# EAGLE library part WE-PPTI_1408 (library WE-PPTI)
WE-PPTI Push-Pull Transformers Characteristics Small size Surface mount Low profile Operating temp: -40°C to 125°C Functional or Reinforced Insulation Applications Isolated interface power supply for CAN, RS-485, RS-422, RS-232, SPI, I2C, lower-power LAN Industrial automation Process control Medical equipment PLC analog and digital I/O modules Isolated gate driver power supplies AC motor drives Uninterruptible power supplies (UPS) Solar inverters Polyphase energy meters Protection relays and IEDs <https://www.we-online.com/components/media/o715993v209%20Family-PPTI.jpg> Details see: www.we-online.com/en/components/products/WE-PPTI <www.we-online.com/catalog/WE-PPTI/?utm_source=eagle_model&utm_medium=description_link&utm_campaign=eisos_eagle> Created by Ella Wu 2023-02-20 2023 (C) Wurth Elektronik
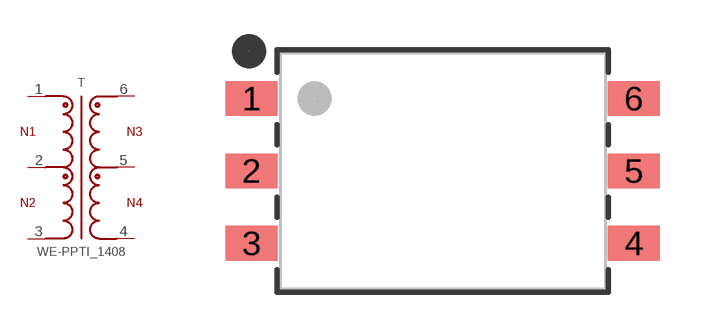
[diagram p2: symbol with the pads of WE-PPTI_1408_L14.75W8.3H4.2; footprint WE-PPTI_1408_L14.75W8.3H4.2]

Designator prefix T

## WE-PPTI_1408_750316853_L14.75W8.3H4.2 (DATASHEET-URL: https://www.we-online.com/redexpert/spec/750316853?ae; FSWITCH: 200 - 600kHz; HEIGHT: 4.2mm; IOUT1: 165mA; L: 200uH; LENGTH: 14.75mm; MOUNT: SMT; N: 1:4; PART-NUMBER: 750316853; SIZE: 1408; TYPE-OF-INSULATION: Supplementary; VALUE: 750316853; VIN: 3.3 V (DC); VOLTAGE-TIME: 15Vus; VOUT1: 12V; VT: 2500 V(AC); WIDTH: 8.3mm), WE-PPTI_1408_750316854_L14.75W8.3H4.2 (DATASHEET-URL: https://www.we-online.com/redexpert/spec/750316854?ae; FSWITCH: 200 - 600kHz; HEIGHT: 4.2mm; IOUT1: 380mA; L: 200uH; LENGTH: 14.75mm; MOUNT: SMT; N: 1:2.5; PART-NUMBER: 750316854; SIZE: 1408; TYPE-OF-INSULATION: Supplementary; VALUE: 750316854; VIN: 5 V (DC); VOLTAGE-TIME: 15Vus; VOUT1: 12V; VT: 2500 V(AC); WIDTH: 8.3mm), WE-PPTI_1408_750316855_L14.75W8.3H4.2 (DATASHEET-URL: https://www.we-online.com/redexpert/spec/750316855?ae; FSWITCH: 200 - 600kHz; HEIGHT: 4.2mm; IOUT1: 85mA; L: 200uH; LENGTH: 14.75mm; MOUNT: SMT; N: 1:7; PART-NUMBER: 750316855; SIZE: 1408; TYPE-OF-INSULATION: Supplementary; VALUE: 750316855; VIN: 3.3 V (DC); VOLTAGE-TIME: 15Vus; VOUT1: 23V; VT: 2500 V(AC); WIDTH: 8.3mm), WE-PPTI_1408_750316856_L14.75W8.3H4.2 (DATASHEET-URL: https://www.we-online.com/redexpert/spec/750316856?ae; FSWITCH: 200 - 600kHz; HEIGHT: 4.2mm; IOUT1: 180mA; L: 200uH; LENGTH: 14.75mm; MOUNT: SMT; N: 1:4.67; PART-NUMBER: 750316856; SIZE: 1408; TYPE-OF-INSULATION: Supplementary; VALUE: 750316856; VIN: 5 V (DC); VOLTAGE-TIME: 15Vus; VOUT1: 23V; VT: 2500 V(AC); WIDTH: 8.3mm), WE-PPTI_1408_750316886_L14.75W8.3H4.2 (DATASHEET-URL: https://www.we-online.com/redexpert/spec/750316886?ae; FSWITCH: 200 - 400kHz; HEIGHT: 4.2mm; IOUT1: 950mA; L: 200uH; LENGTH: 14.75mm; MOUNT: SMT; N: 1:1.17; PART-NUMBER: 750316886; SIZE: 1408; TYPE-OF-INSULATION: Supplementary; VALUE: 750316886; VIN: 5 V (DC); VOLTAGE-TIME: 15Vus; VOUT1: 5V; VT: 2500 V(AC); WIDTH: 8.3mm), WE-PPTI_1408_750316887_L14.75W8.3H4.2 (DATASHEET-URL: https://www.we-online.com/redexpert/spec/750316887?ae; FSWITCH: 200 - 600kHz; HEIGHT: 4.2mm; IOUT1: 700mA; L: 200uH; LENGTH: 14.75mm; MOUNT: SMT; N: 1:1.67; PART-NUMBER: 750316887; SIZE: 1408; TYPE-OF-INSULATION: Supplementary; VALUE: 750316887; VIN: 3.3 V (DC); VOLTAGE-TIME: 15Vus; VOUT1: 5V; VT: 2500 V(AC); WIDTH: 8.3mm), WE-PPTI_1408_750316888_L14.75W8.3H4.2 (DATASHEET-URL: https://www.we-online.com/redexpert/spec/750316888?ae; FSWITCH: 200 - 600kHz; HEIGHT: 4.2mm; IOUT1: 1100mA; L: 200uH; LENGTH: 14.75mm; MOUNT: SMT; N: 1.2:1; PART-NUMBER: 750316888; SIZE: 1408; TYPE-OF-INSULATION: Supplementary; VALUE: 750316888; VIN: 5 V (DC); VOLTAGE-TIME: 15Vus; VOUT1: 3.3V; VT: 2500 V(AC); WIDTH: 8.3mm), WE-PPTI_1408_750317072_L14.75W8.3H4.2 (DATASHEET-URL: https://www.we-online.com/redexpert/spec/750317072?ae; FSWITCH: 200 - 600kHz; HEIGHT: 4.2mm; IOUT1: 125mA; L: 200uH; LENGTH: 14.75mm; MOUNT: SMT; N: 1:6.17; PART-NUMBER: 750317072; SIZE: 1408; TYPE-OF-INSULATION: Supplementary; VALUE: 750317072; VIN: 3.3 V (DC); VOLTAGE-TIME: 15Vus; VOUT1: 20V; VT: 2500 V(AC); WIDTH: 8.3mm)  [WE-PPTI_1408_L14.75W8.3H4.2]
1  1  pas
2  2  pas
3  3  pas
4  4  pas
5  5  pas
6  6  pas

## Footprint WE-PPTI_1408_L14.75W8.3H4.2 (pad centres in mm)
WE-PPTI Push-Pull Transformers Size: 1408, SMT, 6pins LXWXH=14.75X8.3X4.2mm
smd 1.82 x 1.22: 1 -6.715,2.54; 2 -6.715,0; 3 -6.715,-2.54; 4 6.715,-2.54; 5 6.715,0; 6 6.715,2.54